# Altium footprint library Memory_IC.PcbLib: 3 footprints
Each footprint in its own frame and in the unit in brackets; x right, y up, seen from the top. Pads: shape width x height; smd on the part's side, far side on the other; paste and mask are expansions set on the pad; w line width, h text height; cw(c..) or ccw(c..) is an arc to the next point about the centre after c.
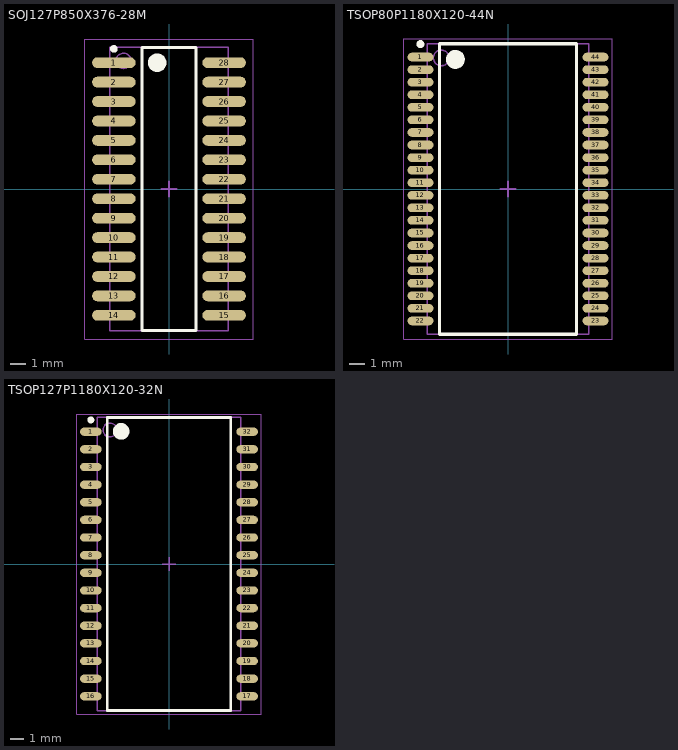
[diagram p0: the footprints below, top view; thin cyan lines are the x and y axes]

## SOJ127P850X376-28M [mm] "SOJ, 28-Leads, Body 18,54x8,54mm, Pitch 1,27mm, IPC Low Density"
height 3.76
pads (28):
  oval 2.85x0.7 smd: 1(-3.6,8.255) 2(-3.6,6.985) 3(-3.6,5.715) 4(-3.6,4.445) 5(-3.6,3.175) 6(-3.6,1.905) 7(-3.6,0.635) 8(-3.6,-0.635) 9(-3.6,-1.905) 10(-3.6,-3.175) 11(-3.6,-4.445) 12(-3.6,-5.715) 13(-3.6,-6.985) 14(-3.6,-8.255) 15(3.6,-8.255) 16(3.6,-6.985) 17(3.6,-5.715) 18(3.6,-4.445) 19(3.6,-3.175) 20(3.6,-1.905) 21(3.6,-0.635) 22(3.6,0.635) 23(3.6,1.905) 24(3.6,3.175) 25(3.6,4.445) 26(3.6,5.715) 27(3.6,6.985) 28(3.6,8.255)
Top Overlay:
  circle w0.25: c-3.6,9.155 r0.125
  circle w0.6: c-0.775,8.25 r0.3
  lines w0.2: -1.775,-9.25 -1.775,9.25 1.775,9.25 1.775,-9.25 -1.775,-9.25
Mechanical 13:
  circle w0.1: c-2.975,8.37 r0.5
  lines w0.1: -3.875,-9.27 -3.875,9.27 3.875,9.27 3.875,-9.27 -3.875,-9.27
Mechanical 15:
  lines w0.05: -5.5,-9.8 -5.5,9.8 5.5,9.8 5.5,-9.8 -5.5,-9.8
  lines w0.1: -0.5,0 0.5,0 ; 0,-0.5 0,0.5
3D body: height 3.76, standoff 0.64, extent -3.875,-9.27 3.875,9.27

## TSOP80P1180X120-44N [mm] "TSOP, 44-Leads, Body 18,41x10,16mm, Pitch 0,80mm, IPC Medium Density"
height 1.2
pads (44):
  oval 1.65x0.55 smd: 1(-5.575,8.4) 2(-5.575,7.6) 3(-5.575,6.8) 4(-5.575,6) 5(-5.575,5.2) 6(-5.575,4.4) 7(-5.575,3.6) 8(-5.575,2.8) 9(-5.575,2) 10(-5.575,1.2) 11(-5.575,0.4) 12(-5.575,-0.4) 13(-5.575,-1.2) 14(-5.575,-2) 15(-5.575,-2.8) 16(-5.575,-3.6) 17(-5.575,-4.4) 18(-5.575,-5.2) 19(-5.575,-6) 20(-5.575,-6.8) 21(-5.575,-7.6) 22(-5.575,-8.4) 23(5.575,-8.4) 24(5.575,-7.6) 25(5.575,-6.8) 26(5.575,-6) 27(5.575,-5.2) 28(5.575,-4.4) 29(5.575,-3.6) 30(5.575,-2.8) 31(5.575,-2) 32(5.575,-1.2) 33(5.575,-0.4) 34(5.575,0.4) 35(5.575,1.2) 36(5.575,2) 37(5.575,2.8) 38(5.575,3.6) 39(5.575,4.4) 40(5.575,5.2) 41(5.575,6) 42(5.575,6.8) 43(5.575,7.6) 44(5.575,8.4)
Top Overlay:
  circle w0.6: c-3.35,8.25 r0.3
  circle w0.25: c-5.575,9.225 r0.125
  lines w0.2: -4.35,-9.25 4.35,-9.25 4.35,9.25 -4.35,9.25 -4.35,-9.25
Mechanical 13:
  circle w0.1: c-4.25,8.35 r0.5
  lines w0.1: -5.15,-9.25 5.15,-9.25 5.15,9.25 -5.15,9.25 -5.15,-9.25
Mechanical 15:
  lines w0.05: -6.625,-9.55 6.625,-9.55 6.625,9.55 -6.625,9.55 -6.625,-9.55
  lines w0.1: -0.5,0 0.5,0 ; 0,-0.5 0,0.5
3D body: height 1.2, standoff 0.05, extent -5.15,-9.25 5.15,9.25

## TSOP127P1180X120-32N [mm] "TSOP, 32-Leads, Body 20,95x10,16mm, Pitch 1,27mm, IPC Medium Density"
height 1.2
pads (32):
  oval 1.55x0.6 smd: 1(-5.625,9.525) 2(-5.625,8.255) 3(-5.625,6.985) 4(-5.625,5.715) 5(-5.625,4.445) 6(-5.625,3.175) 7(-5.625,1.905) 8(-5.625,0.635) 9(-5.625,-0.635) 10(-5.625,-1.905) 11(-5.625,-3.175) 12(-5.625,-4.445) 13(-5.625,-5.715) 14(-5.625,-6.985) 15(-5.625,-8.255) 16(-5.625,-9.525) 17(5.625,-9.525) 18(5.625,-8.255) 19(5.625,-6.985) 20(5.625,-5.715) 21(5.625,-4.445) 22(5.625,-3.175) 23(5.625,-1.905) 24(5.625,-0.635) 25(5.625,0.635) 26(5.625,1.905) 27(5.625,3.175) 28(5.625,4.445) 29(5.625,5.715) 30(5.625,6.985) 31(5.625,8.255) 32(5.625,9.525)
Top Overlay:
  circle w0.25: c-5.625,10.375 r0.125
  circle w0.6: c-3.45,9.55 r0.3
  lines w0.2: -4.45,-10.55 -4.45,10.55 4.45,10.55 4.45,-10.55 -4.45,-10.55
Mechanical 13:
  circle w0.1: c-4.25,9.65 r0.5
  lines w0.1: -5.15,-10.55 -5.15,10.55 5.15,10.55 5.15,-10.55 -5.15,-10.55
Mechanical 15:
  lines w0.05: -6.625,-10.8 -6.625,10.8 6.625,10.8 6.625,-10.8 -6.625,-10.8
  lines w0.1: -0.5,0 0.5,0 ; 0,-0.5 0,0.5
3D body: height 1.2, standoff 0.05, extent -5.15,-10.55 5.15,10.55